# EAGLE library part RPI-ZERO (library HermitRetro)
Prices include 2x40 header strip RS: 163-5307 Price: 0.77
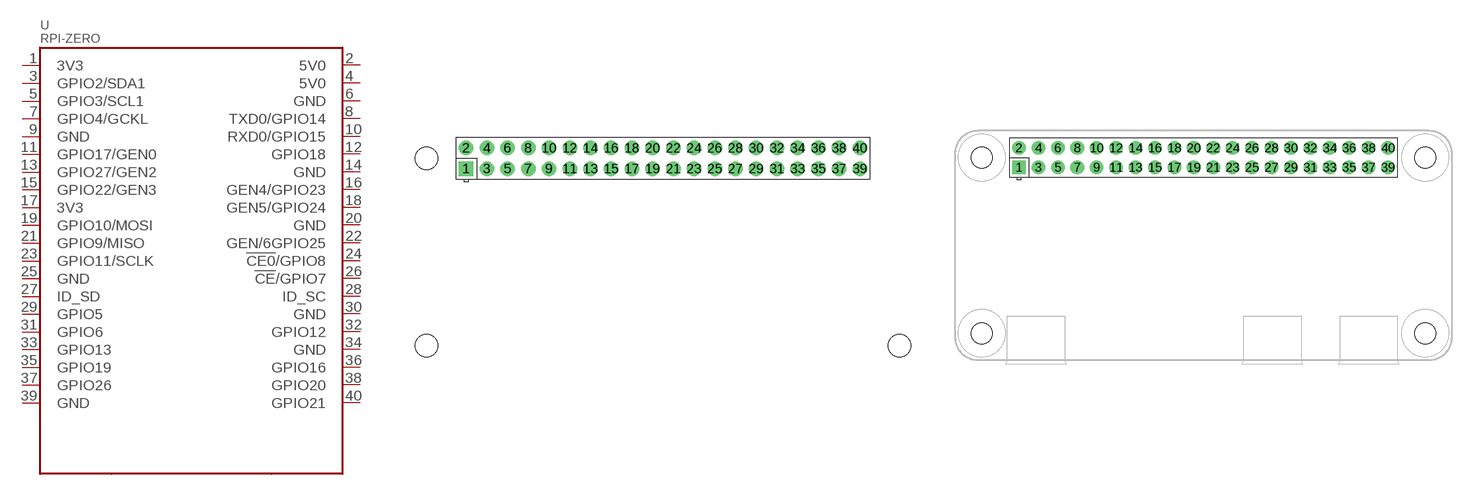
[diagram p6: symbol with the pads of RASPBERRYPI_BASTELSTUBE_V13_RASPI_BOARD_B+_FULL-HANDHELD; footprints RASPBERRYPI_BASTELSTUBE_V13_RASPI_BOARD_B+_FULL-HANDHELD, RASPBERRYPI_BASTELSTUBE_V13_RASPI_BOARD_B+_FULL-TOPSILK]

Designator prefix -

## RPI-ZERO-STANDARD (UNIT_PRICE: 10.37; VENDOR_ID: Pimoroni; VENDOR_SKU: RPI-019)  [RASPBERRYPI_BASTELSTUBE_V13_RASPI_BOARD_B+_FULL-HANDHELD]
1  3V3  sup
2  5V0  sup
3  GPIO2/SDA1
4  5V0  sup
5  GPIO3/SCL1
6  GND  sup
7  GPIO4/GCKL
8  TXD0/GPIO14
9  GND  sup
10  RXD0/GPIO15
11  GPIO17/GEN0
12  GPIO18
13  GPIO27/GEN2
14  GND  sup
15  GPIO22/GEN3
16  GEN4/GPIO23
17  3V3  sup
18  GEN5/GPIO24
19  GPIO10/MOSI
20  GND  sup
21  GPIO9/MISO
22  GEN/6GPIO25
23  GPIO11/SCLK
24  !CE0!/GPIO8
25  GND  sup
26  !CE!/GPIO7
27  ID_SD
28  ID_SC
29  GPIO5
30  GND  sup
31  GPIO6
32  GPIO12
33  GPIO13
34  GND  sup
35  GPIO19
36  GPIO16
37  GPIO26
38  GPIO20
39  GND  sup
40  GPIO21

## RPI-ZERO-TOPSILK (UNIT_PRICE: 10.37; VENDOR_ID: Pimoroni; VENDOR_SKU: RPI-019)  [RASPBERRYPI_BASTELSTUBE_V13_RASPI_BOARD_B+_FULL-TOPSILK]
Pads as for RASPBERRYPI_BASTELSTUBE_V13_RASPI_BOARD_B+_FULL-HANDHELD

## RPI-ZERO-USB-STEM (UNIT_PRICE: 10.37; VENDOR_ID: Pimoroni; VENDOR_SKU: RPI-019)  [RASPBERRYPI_BASTELSTUBE_V13_RASPI_BOARD_B+_FULL-TOPSILK-WITH-STEM]
Pads as for RASPBERRYPI_BASTELSTUBE_V13_RASPI_BOARD_B+_FULL-HANDHELD

## RPI-ZERO-WITH-STEM-WH (UNIT_PRICE: 11.25; VENDOR_ID: Pi Hut; VENDOR_SKU: SC0065)  [RASPBERRYPI_BASTELSTUBE_V13_RASPI_BOARD_B+_FULL-TOPSILK-WITH-STEM-WH]
Pads as for RASPBERRYPI_BASTELSTUBE_V13_RASPI_BOARD_B+_FULL-HANDHELD

## Footprint RASPBERRYPI_BASTELSTUBE_V13_RASPI_BOARD_B+_FULL-HANDHELD (pad centres in mm)
Raspberry Pi board model B+, full outline with position of big connectors & drill holes
drill 1 pad 1.778 square: 1 8.37,25.23
drill 1 pad 1.778: 2 8.37,27.77; 3 10.91,25.23; 4 10.91,27.77; 5 13.45,25.23; 6 13.45,27.77; 7 15.99,25.23; 8 15.99,27.77; 9 18.53,25.23; 10 18.53,27.77; 11 21.07,25.23; 12 21.07,27.77; 13 23.61,25.23; 14 23.61,27.77; 15 26.15,25.23; 16 26.15,27.77; 17 28.69,25.23; 18 28.69,27.77; 19 31.23,25.23; 20 31.23,27.77; 21 33.77,25.23; 22 33.77,27.77; 23 36.31,25.23; 24 36.31,27.77; 25 38.85,25.23; 26 38.85,27.77; 27 41.39,25.23; 28 41.39,27.77; 29 43.93,25.23; 30 43.93,27.77; 31 46.47,25.23; 32 46.47,27.77; 33 49.01,25.23; 34 49.01,27.77; 35 51.55,25.23; 36 51.55,27.77; 37 54.09,25.23; 38 54.09,27.77; 39 56.63,25.23; 40 56.63,27.77
hole 2.75 at 3.5,3.5
hole 2.75 at 3.5,26.5
hole 2.75 at 61.5,3.5

## Footprint RASPBERRYPI_BASTELSTUBE_V13_RASPI_BOARD_B+_FULL-TOPSILK (pad centres in mm)
Raspberry Pi board model B+, full outline with position of big connectors & drill holes
drill 1 pad 1.778 square: 1 8.37,25.23
drill 1 pad 1.778: 2 8.37,27.77; 3 10.91,25.23; 4 10.91,27.77; 5 13.45,25.23; 6 13.45,27.77; 7 15.99,25.23; 8 15.99,27.77; 9 18.53,25.23; 10 18.53,27.77; 11 21.07,25.23; 12 21.07,27.77; 13 23.61,25.23; 14 23.61,27.77; 15 26.15,25.23; 16 26.15,27.77; 17 28.69,25.23; 18 28.69,27.77; 19 31.23,25.23; 20 31.23,27.77; 21 33.77,25.23; 22 33.77,27.77; 23 36.31,25.23; 24 36.31,27.77; 25 38.85,25.23; 26 38.85,27.77; 27 41.39,25.23; 28 41.39,27.77; 29 43.93,25.23; 30 43.93,27.77; 31 46.47,25.23; 32 46.47,27.77; 33 49.01,25.23; 34 49.01,27.77; 35 51.55,25.23; 36 51.55,27.77; 37 54.09,25.23; 38 54.09,27.77; 39 56.63,25.23; 40 56.63,27.77
hole 2.75 at 3.5,3.5
hole 2.75 at 3.5,26.5
hole 2.75 at 61.5,3.5
hole 2.75 at 61.5,26.5

## Footprint RASPBERRYPI_BASTELSTUBE_V13_RASPI_BOARD_B+_FULL-TOPSILK-WITH-STEM (pad centres in mm)
Raspberry Pi board model B+, full outline with position of big connectors & drill holes
drill 1 pad 1.778 square: 1 8.37,25.23
drill 1 pad 1.778: 2 8.37,27.77; 3 10.91,25.23; 4 10.91,27.77; 5 13.45,25.23; 6 13.45,27.77; 7 15.99,25.23; 8 15.99,27.77; 9 18.53,25.23; 10 18.53,27.77; 11 21.07,25.23; 12 21.07,27.77; 13 23.61,25.23; 14 23.61,27.77; 15 26.15,25.23; 16 26.15,27.77; 17 28.69,25.23; 18 28.69,27.77; 19 31.23,25.23; 20 31.23,27.77; 21 33.77,25.23; 22 33.77,27.77; 23 36.31,25.23; 24 36.31,27.77; 25 38.85,25.23; 26 38.85,27.77; 27 41.39,25.23; 28 41.39,27.77; 29 43.93,25.23; 30 43.93,27.77; 31 46.47,25.23; 32 46.47,27.77; 33 49.01,25.23; 34 49.01,27.77; 35 51.55,25.23; 36 51.55,27.77; 37 54.09,25.23; 38 54.09,27.77; 39 56.63,25.23; 40 56.63,27.77
hole 2.75 at 3.5,3.5
hole 2.75 at 3.5,26.5
hole 2.75 at 61.5,3.5
hole 2.75 at 61.5,26.5

## Footprint RASPBERRYPI_BASTELSTUBE_V13_RASPI_BOARD_B+_FULL-TOPSILK-WITH-STEM-WH (pad centres in mm)
Raspberry Pi board model B+, full outline with position of big connectors & drill holes
drill 1 pad 1.778 square: 1 44.97,25.23
drill 1 pad 1.778: 2 44.97,27.77; 3 42.43,25.23; 4 42.43,27.77; 5 39.89,25.23; 6 39.89,27.77; 7 37.35,25.23; 8 37.35,27.77; 9 34.81,25.23; 10 34.81,27.77; 11 32.27,25.23; 12 32.27,27.77; 13 29.73,25.23; 14 29.73,27.77; 15 27.19,25.23; 16 27.19,27.77; 17 24.65,25.23; 18 24.65,27.77; 19 22.11,25.23; 20 22.11,27.77; 21 19.57,25.23; 22 19.57,27.77; 23 17.03,25.23; 24 17.03,27.77; 25 14.49,25.23; 26 14.49,27.77; 27 11.95,25.23; 28 11.95,27.77; 29 9.41,25.23; 30 9.41,27.77; 31 6.87,25.23; 32 6.87,27.77; 33 4.33,25.23; 34 4.33,27.77; 35 1.79,25.23; 36 1.79,27.77; 37 -0.75,25.23; 38 -0.75,27.77; 39 -3.29,25.23; 40 -3.29,27.77
hole 2.75 at 49.84,3.5
hole 2.75 at 49.84,26.5
hole 2.75 at -8.16,3.5
hole 2.75 at -8.16,26.5